# Altium schematic symbol library HW.SchLib: 328 symbols (part 4 of 10)
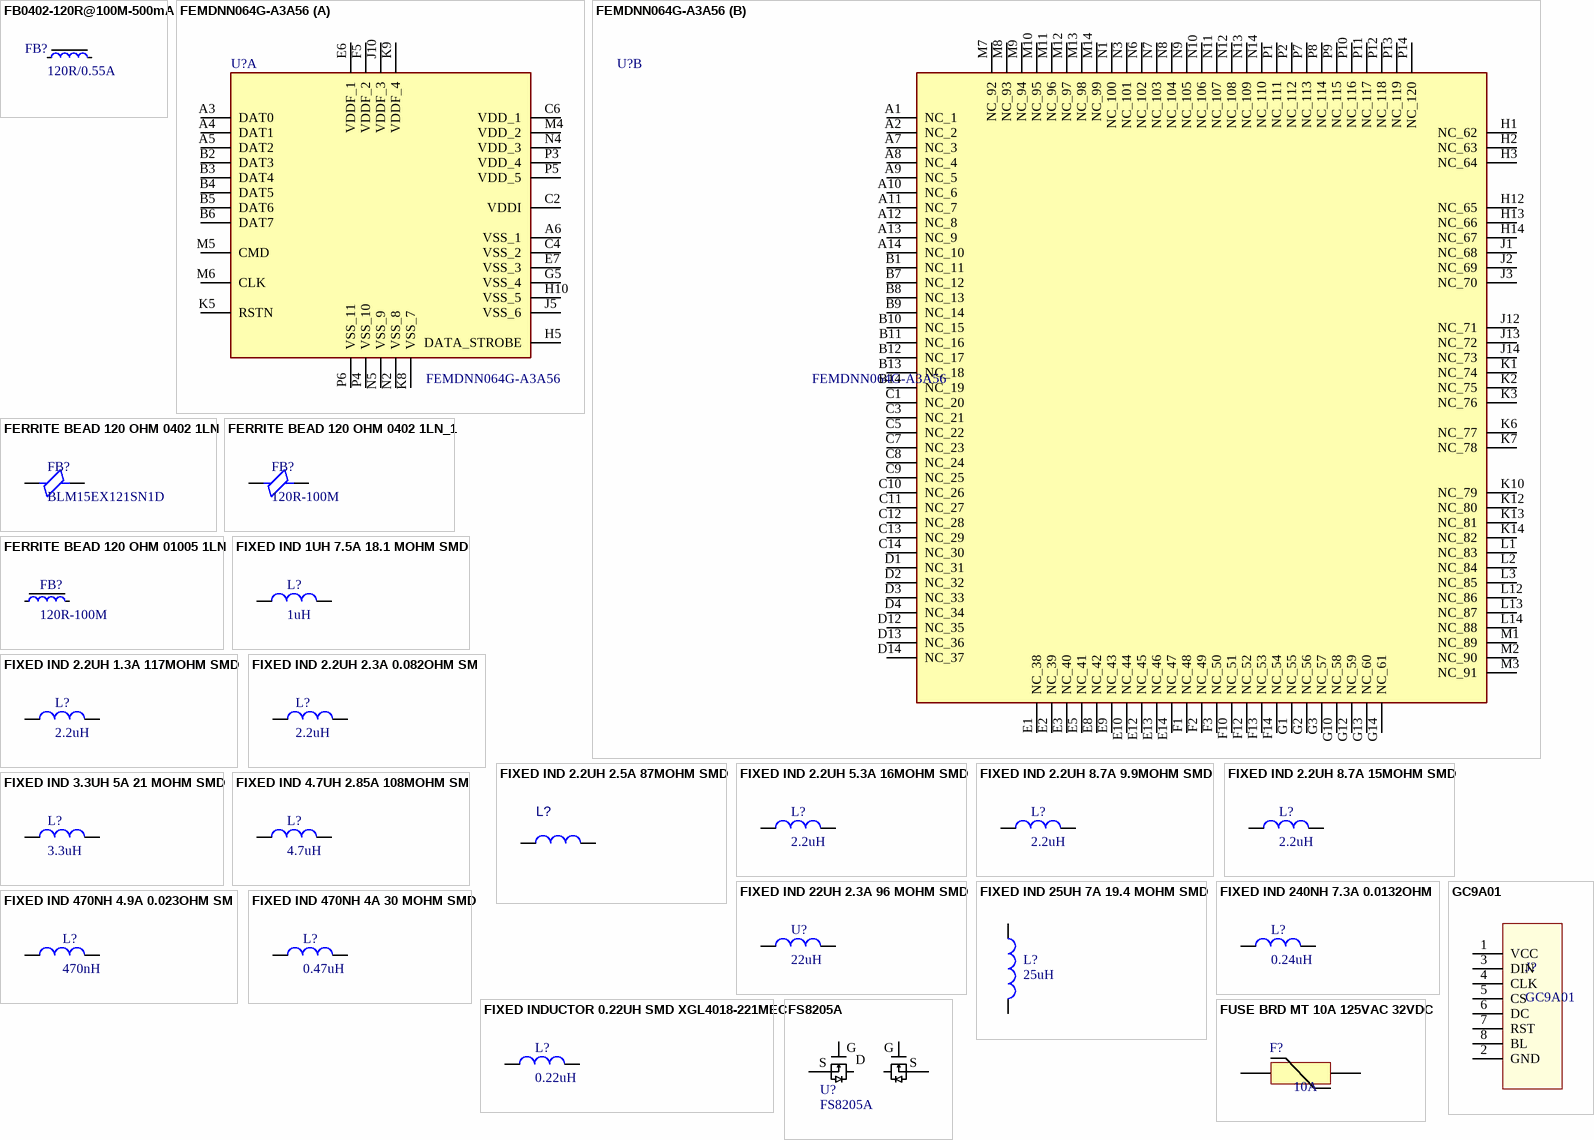
[diagram p26: symbols FB0402-120R@100M-500mA to GC9A01]

## FIXED IND 22UH 2.3A 96 MOHM SMD
designator U?, comment 22uH
Inductor Power Semi-Shielded Wirewound 22uH 20% 1MHz 15Q-Factor Ferrite 2.3A 0.096Ohm DCR 2424 Automotive T/R; Manufacturer: Bourns; Manufacturer Part Number: SRN6045TA-220M; Saturation Current: 3.3A; DC Resistance (DCR): 96mR; Self Resonant Frequency: 17MHz; Series Resistance: 115.2mR; Q Factor: 15NUMBER; Supplier 1: Avnet; RoHS: Yes; Category: Fixed Inductors; Stock 1: 120; Pricing 1: 1=0.354 (USD); Mount: Surface Mount; Case/Package: Nonstandard; Core Material: Ferrite; Min Operating Temperature: -55°C; Max Operating Temperature: 125°C; Inductance: 22uH; RMS Current (Irms): 2.3A; Packaging: Tape and Reel; Inductance Tolerance: 20%; Series: SRN6045TA; Tolerance: 20%; Shielding: Shielded; Test Frequency: 1MHz; Height: 4.5mm; Ratings: AEC-Q200; Reach SVHC Compliant: No; RoHS Compliant: Yes; ComponentLink1URL: https://www.bourns.com/docs/Product-Datasheets/SRN6045TA.pdf?src-supplier=Digikey; ComponentLink1Description: https://www.bourns.com/docs/Product-Datasheets/SRN6045TA.pdf?src-supplier=Digikey; Supplier Part Number 1: 94Y3548
footprint SRN6045TA
pins: 1, 2

## FIXED IND 25UH 7A 19.4 MOHM SMD
designator L?, comment 25uH
FIXED IND 25UH 7A 19.4 MOHM SMD; Manufacturer PN: Pulse Electronics; Manufacturer: PG0936.253NL; JLCPCB PN: C3221002
footprint 78439370220
pins: 1, 2

## FIXED IND 240NH 7.3A 0.0132OHM
designator L?, comment 0.24uH
Inductor Power Shielded Wirewound 0.24uH 20% 1MHz 15Q-Factor Metal Alloy Powder 7.3A 0.0132Ohm DCR 1008 T/R; Manufacturer: Bourns; Manufacturer Part Number: SRP2512TMA-R24M; Supplier 1: Arrow Electronics; RoHS: No; Stock 1: 1760; Pricing 1: 1=0.1431, 10=0.097, 25=0.096, 50=0.0948, 100=0.0923, 250=0.0897, 500=0.0871, 1000=0.0846 (USD); Supplier Part Number 1: SRP2512TMA-R24M
footprint INDC2520X120N
pins: 1, 2

## FIXED IND 470NH 4.9A 0.023OHM SM
designator L?, comment 470nH
Inductor Power Chip Shielded Wirewound 0.47uH 20% 1MHz Metal 4.9A 0.023Ohm DCR 1008 T/R; Manufacturer: Murata; Manufacturer Part Number: DFE252012F-R47M=P2; Supplier 1: Mouser; RoHS: Yes; Category: Fixed Inductors; Stock 1: 95724; Pricing 1: 1=0.32, 10=0.216, 50=0.216, 100=0.169, 1000=0.134, 10000=0.116 (USD); ComponentLink1URL: http://www.murata.com/~/media/webrenewal/products/inductor/chip/tokoproducts/wirewoundmetalalloychiptype/m_dfe252012f.ashx?src-supplier=Digikey; ComponentLink1Description: http://www.murata.com/~/media/webrenewal/products/inductor/chip/tokoproducts/wirewoundmetalalloychiptype/m_dfe252012f.ashx?src-supplier=Digikey; ComponentLink2URL: https://www.murata.com/~/media/webrenewal/products/inductor/chip/tokoproducts/wirewoundmetalalloychiptype/m_dfe252012f.ashx?src-supplier=Digikey; ComponentLink2Description: https://www.murata.com/~/media/webrenewal/products/inductor/chip/tokoproducts/wirewoundmetalalloychiptype/m_dfe252012f.ashx?src-supplier=Digikey; ComponentLink3URL: https://datasheet.octopart.com/DFE252012F-R47M%3DP2-Murata-datasheet-141944277.pdf?src-supplier=Arrow.cn; ComponentLink3Description: https://datasheet.octopart.com/DFE252012F-R47M%3DP2-Murata-datasheet-141944277.pdf?src-supplier=Arrow.cn; Supplier Part Number 1: 81-DFE252012F-R47MP2
footprint INDC2520X120N
pins: 1, 2

## FIXED IND 470NH 4A 30 MOHM SMD
designator L?, comment 0.47uH
Fixed Ind 470NH 4A 30 Mohm SMD; Manufacturer: Sunlord; Manufacturer Part Number: WPN252010UR47MT; Supplier 1: Digikey; RoHS: No; Category: Fixed Inductors; Stock 1: 431; Pricing 1: 1=0.39, 10=0.333, 25=0.3056, 50=0.2778, 100=0.2472, 250=0.23332, 500=0.19998, 1000=0.17776 (USD); Supplier Part Number 1: 3442-WPN252010UR47MTCT-ND
footprint INDC2520X120N
pins: 1, 2

## FIXED INDUCTOR 0.22UH SMD XGL4018-221MEC
designator L?, comment 0.22uH
220 nH Shielded Molded Inductor 15.6 A 3.2mOhm Max 1616 (4040 Metric)
footprint IND_XGL4018-221MEC
pins: 1, 2

## FS8205A
designator U?
Mosfet Array 2 N-Channel (Dual) Common Drain 20V 6A 1.25W Surface Mount TSSOP-8
footprint TSSOP-8
pins: 1 D, 2 S1, 4 G1, 5 G2, 6 S2, 8 D
text: G; S

## FUSE BRD MT 10A 125VAC 32VDC
designator F?, comment 10A
Fuse Chip Fast Acting 10A 125V SMD Solder Pad 1206 3.2 X 1.58 X 0.65mm Ceramic T/R Automotive; Part Number: F0004; ManfactPart: C1H10; Manufacturer: Bel; Manufacturer Part Number: 0685H9100-01; ID: 4; Fuse Type: Board Mount (Cartridge Style Excluded); Voltage Rating (DC): 32V; DC Cold Resistance: 3.9mR; Approvals: cURus; Supplier 1: Digikey; RoHS: Yes; Category: Fuses; Stock 1: 148467; Pricing 1: 1=0.32, 5=0.312, 10=0.298, 50=0.2662, 100=0.2479, 250=0.22036, 500=0.18362, 1000=0.17444 (USD); Mount: Surface Mount; Case/Package: 1206; Case Code (Imperial): 1206; Case Code (Metric): 3216; Min Operating Temperature: -55°C; Max Operating Temperature: 125°C; Packaging: Cut Tape; Current Rating: 10A; Voltage Rating (AC): 125V; Series: C1H; RoHS Compliant: Yes; ComponentLink1URL: http://www.farnell.com/datasheets/2571626.pdf?src-supplier=Farnell; ComponentLink1Description: http://www.farnell.com/datasheets/2571626.pdf?src-supplier=Farnell; ComponentLink2URL: http://www.farnell.com/datasheets/2571626.pdf?src-supplier=Element14; ComponentLink2Description: http://www.farnell.com/datasheets/2571626.pdf?src-supplier=Element14; ComponentLink3URL: http://www.farnell.com/datasheets/2571626.pdf?src-supplier=Newark; ComponentLink3Description: http://www.farnell.com/datasheets/2571626.pdf?src-supplier=Newark; ComponentLink4URL: https://belfuse.com/resources/datasheets/circuitprotection/ds-cp-c1h-series.pdf?src-supplier=Digikey; ComponentLink4Description: https://belfuse.com/resources/datasheets/circuitprotection/ds-cp-c1h-series.pdf?src-supplier=Digikey; ComponentLink5URL: https://belfuse.com/resources/StewartConnector/C1H.pdf?src-supplier=Digikey; ComponentLink5Description: https://belfuse.com/resources/StewartConnector/C1H.pdf?src-supplier=Digikey; Supplier Part Number 1: 507-1942-1-ND; RefVal: 10A
footprint FUSE_1206(3216)HW
pins: 1, 2

## GC9A01
designator J?
1.28" Round LCD Display Module
footprint CONN_BM08B-PASS-1-TFTLFSN_JST
pins: 1 VCC, 2 GND, 3 DIN, 4 CLK, 5 CS, 6 DC, 7 RST, 8 BL

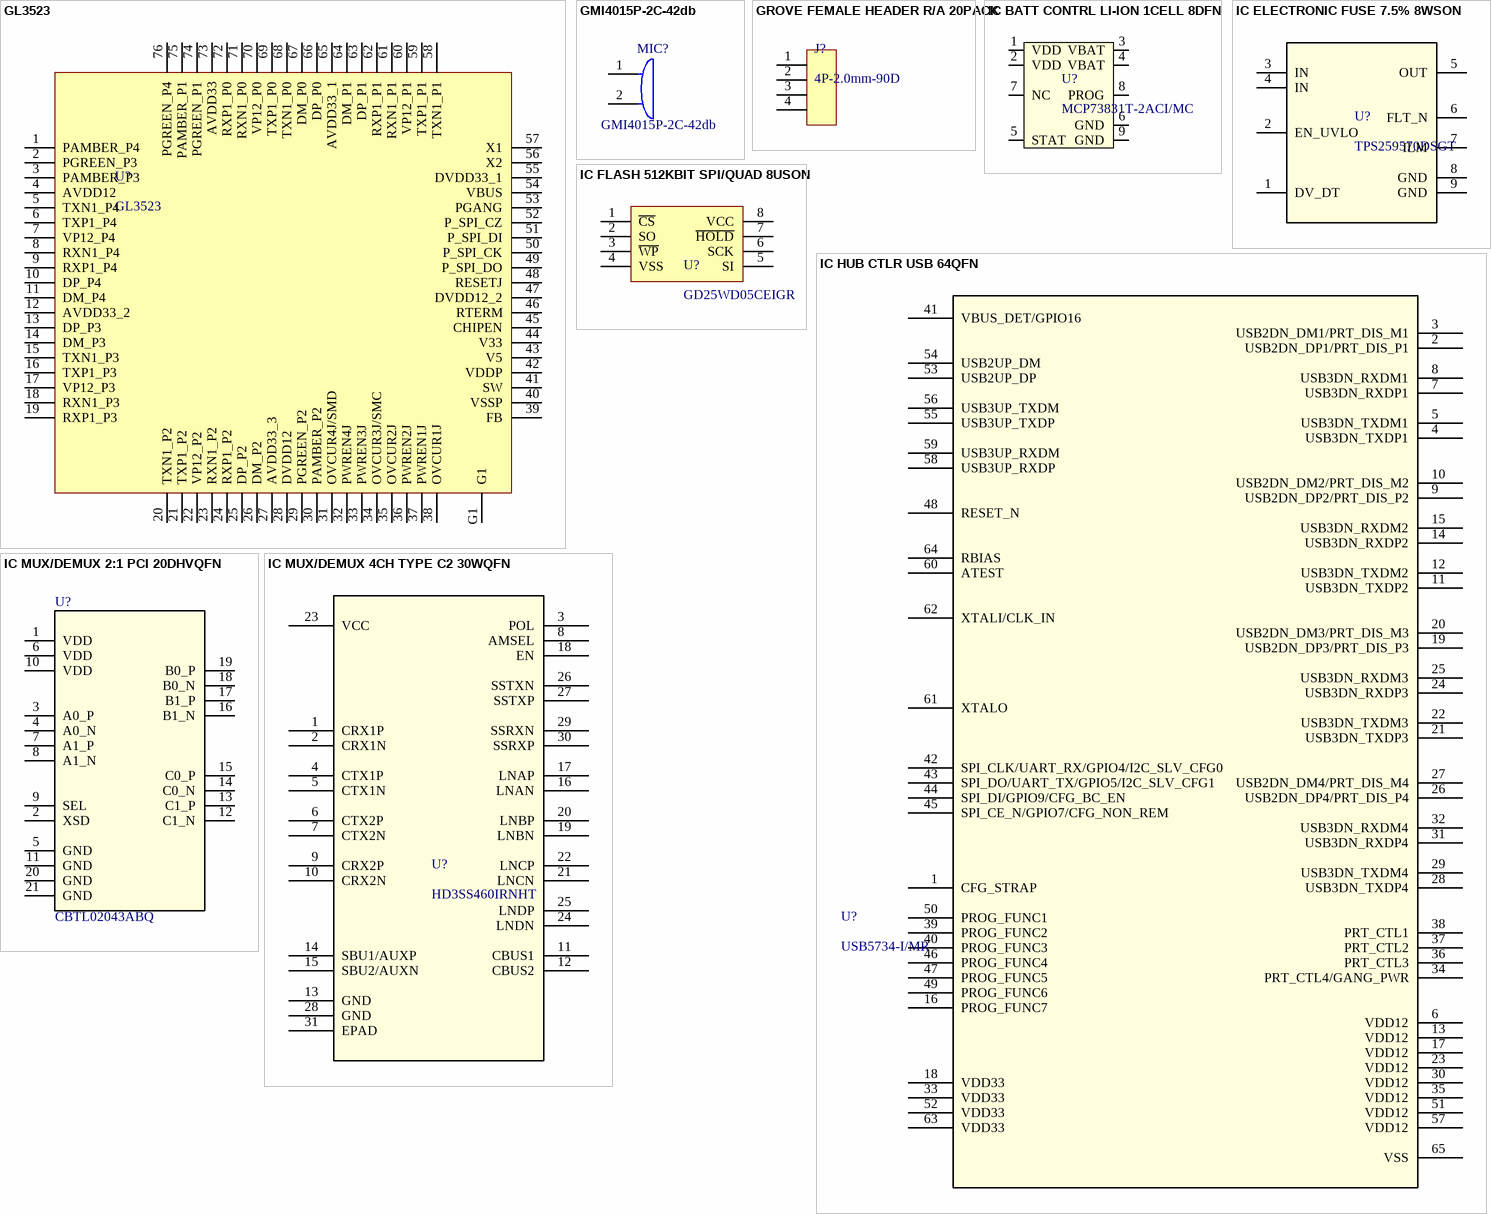
[diagram p4: symbols GL3523 to IC MUX/DEMUX 4CH TYPE C2 30WQFN]

## GL3523
designator U?
pins: 1 PAMBER_P4, 2 PGREEN_P3, 3 PAMBER_P3, 4 AVDD12, 5 TXN1_P4, 6 TXP1_P4, 7 VP12_P4, 8 RXN1_P4, 9 RXP1_P4, 10 DP_P4, 11 DM_P4, 12 AVDD33_2, 13 DP_P3, 14 DM_P3, 15 TXN1_P3, 16 TXP1_P3, 17 VP12_P3, 18 RXN1_P3, 19 RXP1_P3, 20 TXN1_P2, 21 TXP1_P2, 22 VP12_P2, 23 RXN1_P2, 24 RXP1_P2, 25 DP_P2, 26 DM_P2, 27 AVDD33_3, 28 DVDD12, 29 PGREEN_P2, 30 PAMBER_P2, 31 OVCUR4J/SMD, 32 PWREN4J, 33 PWREN3J, 34 OVCUR3J/SMC, 35 OVCUR2J, 36 PWREN2J, 37 PWREN1J, 38 OVCUR1J, 39 FB, 40 VSSP, 41 SW, 42 VDDP, 43 V5, 44 V33, 45 CHIPEN, 46 RTERM, 47 DVDD12_2, 48 RESETJ, 49 P_SPI_DO, 50 P_SPI_CK, 51 P_SPI_DI, 52 P_SPI_CZ, 53 PGANG, 54 VBUS, 55 DVDD33_1, 56 X2, 57 X1, 58 TXN1_P1, 59 TXP1_P1, 60 VP12_P1, 61 RXN1_P1, 62 RXP1_P1, 63 DP_P1, 64 DM_P1, 65 AVDD33_1, 66 DP_P0, 67 DM_P0, 68 TXN1_P0, 69 TXP1_P0, 70 VP12_P0, 71 RXN1_P0, 72 RXP1_P0, 73 AVDD33, 74 PGREEN_P1, 75 PAMBER_P1, 76 PGREEN_P4, G1

## GMI4015P-2C-42db
designator MIC?
SPZL000087; 名称: 驻极体电容麦; 厂商: INGHAi(赢海); 贴片和直插: THT; 封装: MIC-φ4.0*1.2mm; 描述: φ4.0*1.5mm 1.5V-10V; 工作温度: -25~70℃; SuppliersPartNumber: C233292; 商品编号: SPZL000087; 型号: GMI4015P-2C-42db
footprint MIC-TH_BD4.0-P1.40-D0.4-L-FD
pins: 1 A, 2 B
2 alternate drawings of the same symbol

## GROVE FEMALE HEADER R/A 20PACK
designator J?, comment 4P-2.0mm-90D
Grove Female Headers, 4-Pin, Pitch 2mm, Angled, Pack of 20 Pieces; Manufacturer: Seeed Studio; Manufacturer Part Number: 114020164; Supplier 1: Digikey; RoHS: No; Stock 1: 227; Pricing 1: 1=2.8 (USD); ComponentLink1URL: https://files.seeedstudio.com/products/114020164/res/Grove%20Female%20Header%20-%20SMD-4P-2.0mm-90D%20Datasheet.pdf?src-supplier=Digikey; ComponentLink1Description: https://files.seeedstudio.com/products/114020164/res/Grove%20Female%20Header%20-%20SMD-4P-2.0mm-90D%20Datasheet.pdf?src-supplier=Digikey; Supplier Part Number 1: 1597-114020164-ND
footprint SEEEDSTUDIO_114020164
pins: 1, 2, 3, 4

## IC BATT CONTRL LI-ION 1CELL 8DFN
designator U?, comment MCP73831T-2ACI/MC
Linear Battery Charger Controller Li-Ion/Li-Pol 505mA 4.2V 8-Pin DFN EP T/R; Manufacturer: Microchip; Nominal Input Voltage: 6V; Number of Outputs: 1NUMBER; Supplier 1: Digikey; Manufacturer Part Number: MCP73831T-2ACI/MC; RoHS: Yes; Category: Battery Management; Stock 1: 12388; Pricing 1: 1=0.79, 25=0.65, 3300=0.65 (USD); Height: 1mm; Lead Free: 5697LeadFree; ComponentLink1URL: https://datasheet.ciiva.com/1933/21984e-1933405.pdf?src-supplier=Digikey; ComponentLink1Description: https://datasheet.ciiva.com/1933/21984e-1933405.pdf?src-supplier=Digikey; Supplier Part Number 1: MCP73831T-2ACI/MCCT-ND
footprint MCP73831T-2ACI/MC
pins: 1 VDD, 2 VDD, 3 VBAT, 4 VBAT, 5 STAT, 6 GND, 7 NC, 8 PROG, 9 GND

## IC ELECTRONIC FUSE 7.5% 8WSON
designator U?, comment TPS259570DSGT
TPS259570 12V eFuse with Fast Overvoltage Protection 2.7V to 18V 4A 34m Ohm 8-Pin WSON T/R; Mfr_Name: Texas Instruments; Number of Channels: 1; Accuracy: 7.5%; TYPE: TYPE; RefDes: RefDes; Supplier 1: Mouser; Manufacturer: Texas Instruments; Manufacturer Part Number: TPS259570DSGT; RoHS: Yes; Category: Power Management ICs; Stock 1: 1228; Pricing 1: 1=1.11, 10=0.945, 50=0.945, 100=0.662, 1000=0.505, 10000=0.431 (USD); Mount: Surface Mount; Min Operating Temperature: -40°C; Max Operating Temperature: 125°C; Packaging: Cut Tape; Output Current: 4A; Series: -; RoHS Compliant: Yes; ComponentLink1URL: http://www.ti.com/lit/ds/symlink/tps2595.pdf?src-supplier=Digikey; ComponentLink1Description: http://www.ti.com/lit/ds/symlink/tps2595.pdf?src-supplier=Digikey; ComponentLink2URL: http://www.ti.com/general/docs/suppproductinfo.tsp?distId=10&amp;gotoUrl=http%3A%2F%2Fwww.ti.com%2Flit%2Fgpn%2Ftps2595&src-supplier=Digikey; ComponentLink2Description: http://www.ti.com/general/docs/suppproductinfo.tsp?distId=10&amp;gotoUrl=http%3A%2F%2Fwww.ti.com%2Flit%2Fgpn%2Ftps2595&src-supplier=Digikey; Supplier Part Number 1: 595-TPS259570DSGT
footprint DSG0008A
pins: 1 DV_DT, 2 EN_UVLO, 3 IN, 4 IN, 5 OUT, 6 FLT_N, 7 ILM, 8 GND, 9 GND

## IC FLASH 512KBIT SPI/QUAD 8USON
designator U?, comment GD25WD05CEIGR
512Kb (64K x 8) SPI NOR Flash FLASH 100MHz Non-Volatile USON-8_3x2mm NOR FLASH ROHS; Manufacturer: GigaDevice; Supplier 1: Mouser; Manufacturer Part Number: GD25WD05CEIGR; RoHS: No; Category: Memory; Stock 1: 1494; Pricing 1: 1=0.41, 10=0.402, 50=0.402, 100=0.329, 1000=0.324, 10000=0.274 (USD); Supplier Part Number 1: 363-GD25WD05CEIGR
pins: 1 ~{CS}, 2 SO, 3 ~{WP}, 4 VSS, 5 SI, 6 SCK, 7 ~{HOLD}, 8 VCC

## IC HUB CTLR USB 64QFN
designator U?, comment USB5734-I/MR
USB Hub Controller USB 3.0 I2C, SPI, UART Interface 64-VQFN (9x9); Mfr_Name: Microchip; RefDes: RefDes; Type: Type
footprint VQFN64_MR_MCH
pins: 1 CFG_STRAP, 2 USB2DN_DP1/PRT_DIS_P1, 3 USB2DN_DM1/PRT_DIS_M1, 4 USB3DN_TXDP1, 5 USB3DN_TXDM1, 6 VDD12, 7 USB3DN_RXDP1, 8 USB3DN_RXDM1, 9 USB2DN_DP2/PRT_DIS_P2, 10 USB2DN_DM2/PRT_DIS_M2, 11 USB3DN_TXDP2, 12 USB3DN_TXDM2, 13 VDD12, 14 USB3DN_RXDP2, 15 USB3DN_RXDM2, 16 PROG_FUNC7, 17 VDD12, 18 VDD33, 19 USB2DN_DP3/PRT_DIS_P3, 20 USB2DN_DM3/PRT_DIS_M3, 21 USB3DN_TXDP3, 22 USB3DN_TXDM3, 23 VDD12, 24 USB3DN_RXDP3, 25 USB3DN_RXDM3, 26 USB2DN_DP4/PRT_DIS_P4, 27 USB2DN_DM4/PRT_DIS_M4, 28 USB3DN_TXDP4, 29 USB3DN_TXDM4, 30 VDD12, 31 USB3DN_RXDP4, 32 USB3DN_RXDM4, 33 VDD33, 34 PRT_CTL4/GANG_PWR, 35 VDD12, 36 PRT_CTL3, 37 PRT_CTL2, 38 PRT_CTL1, 39 PROG_FUNC2, 40 PROG_FUNC3, 41 VBUS_DET/GPIO16, 42 SPI_CLK/UART_RX/GPIO4/I2C_SLV_CFG0, 43 SPI_DO/UART_TX/GPIO5/I2C_SLV_CFG1, 44 SPI_DI/GPIO9/CFG_BC_EN, 45 SPI_CE_N/GPIO7/CFG_NON_REM, 46 PROG_FUNC4, 47 PROG_FUNC5, 48 RESET_N, 49 PROG_FUNC6, 50 PROG_FUNC1, 51 VDD12, 52 VDD33, 53 USB2UP_DP, 54 USB2UP_DM, 55 USB3UP_TXDP, 56 USB3UP_TXDM, 57 VDD12, 58 USB3UP_RXDP, 59 USB3UP_RXDM, 60 ATEST, 61 XTALO, 62 XTALI/CLK_IN, 63 VDD33, 64 RBIAS, 65 VSS

## IC MUX/DEMUX 2:1 PCI 20DHVQFN
designator U?, comment CBTL02043ABQ
3.3 V Dual Differential Channel 2: 1 Multiplexer Demultiplexer Switch DHVQFN20; Manufacturer: NXP Semiconductors; Manufacturer Part Number: CBTL02043ABQ,115; Logic Function: Multiplexer,Demultiplexer; Max Supply Voltage: 3.6V; Min Supply Voltage: 3V; On-State Resistance: 6R; Operating Supply Current: 1.35mA; Number of Channels: 4; Propagation Delay: 60ps; Bandwidth: 7GHz; Supply Type: Single; Supplier 1: Arrow Electronics; RoHS: Yes; Category: Interface ICs; Stock 1: 1260; Pricing 1: 1=1.8647, 10=1.5783, 25=1.5626, 100=1.3659, 250=1.2761, 500=1.1266, 1000=0.9598 (USD); Mount: Surface Mount; Number of Pins: 20; Contact Plating: Gold; Min Operating Temperature: -40°C; Max Operating Temperature: 85°C; Package Quantity: 1; Packaging: Tape and Reel; Series: -; Resistance: 6R; Lead Free: Lead Free; RoHS Compliant: Yes; ComponentLink1URL: https://datasheet.ciiva.com/4921/cbtl02043a-cbtl02043b-87520-4921245.pdf?src-supplier=Mouser; ComponentLink1Description: https://datasheet.ciiva.com/4921/cbtl02043a-cbtl02043b-87520-4921245.pdf?src-supplier=Mouser; ComponentLink2URL: https://datasheet.ciiva.com/6637/cbtl02043a-cbtl02043b-6637066.pdf?src-supplier=Digikey; ComponentLink2Description: https://datasheet.ciiva.com/6637/cbtl02043a-cbtl02043b-6637066.pdf?src-supplier=Digikey; Supplier Part Number 1: CBTL02043ABQ,115
footprint DHVQFN20_SOT764-1_NXP
pins: 1 VDD, 2 XSD, 3 A0_P, 4 A0_N, 5 GND, 6 VDD, 7 A1_P, 8 A1_N, 9 SEL, 10 VDD, 11 GND, 12 C1_N, 13 C1_P, 14 C0_N, 15 C0_P, 16 B1_N, 17 B1_P, 18 B0_N, 19 B0_P, 20 GND, 21 GND

## IC MUX/DEMUX 4CH TYPE C2 30WQFN
designator U?, comment HD3SS460IRNHT
USB Switch IC 1 Channel 30-WQFN (4.5x2.5); Mfr_Name: Texas Instruments; RefDes: RefDes; Type: Type
footprint RNH30_TEX
pins: 1 CRX1P, 2 CRX1N, 3 POL, 4 CTX1P, 5 CTX1N, 6 CTX2P, 7 CTX2N, 8 AMSEL, 9 CRX2P, 10 CRX2N, 11 CBUS1, 12 CBUS2, 13 GND, 14 SBU1/AUXP, 15 SBU2/AUXN, 16 LNAN, 17 LNAP, 18 EN, 19 LNBN, 20 LNBP, 21 LNCN, 22 LNCP, 23 VCC, 24 LNDN, 25 LNDP, 26 SSTXN, 27 SSTXP, 28 GND, 29 SSRXN, 30 SSRXP, 31 EPAD

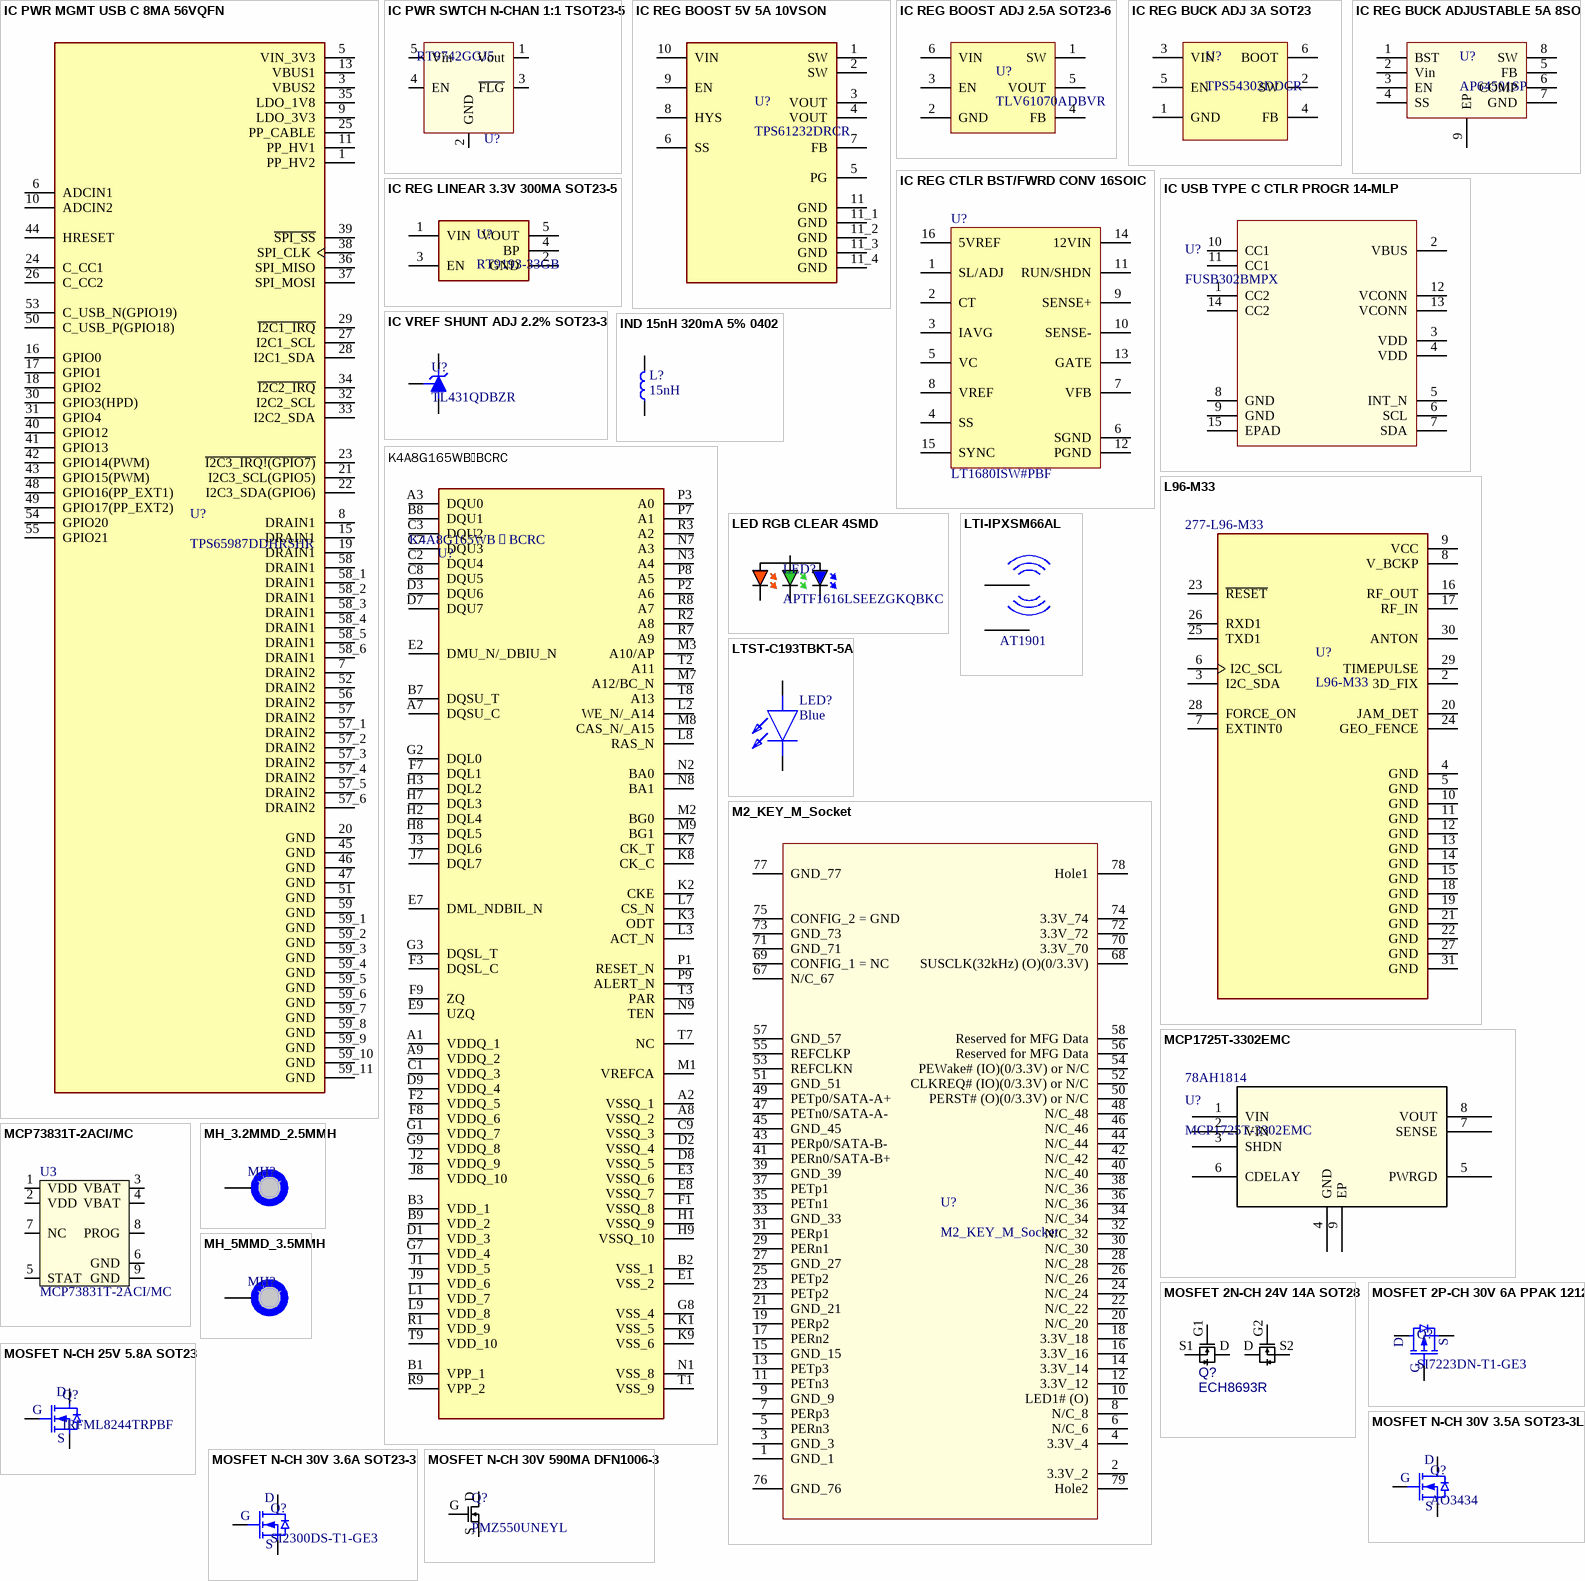
[diagram p5: symbols IC PWR MGMT USB C 8MA 56VQFN to MOSFET N-CH 30V 590MA DFN1006-3]

## IC PWR MGMT USB C 8MA 56VQFN
designator U?, comment TPS65987DDHRSHR
USB Type-C™ and USB PD controller with integrated power switches 56-VQFN -10 to 75; Manufacturer: Texas Instruments; Operating Supply Current: 8mA; Supplier 1: Mouser; Manufacturer Part Number: TPS65987DDHRSHR; RoHS: Yes; Category: Power Management ICs; Stock 1: 4765; Pricing 1: 1=4.67, 10=3.98, 50=3.98, 100=3.44, 1000=2.48, 10000=2.35 (USD); Mount: Surface Mount; Case/Package: VQFN; Min Operating Temperature: -10°C; Max Operating Temperature: 75°C; Packaging: Tape and Reel; Series: -; RoHS Compliant: Yes; ComponentLink1URL: http://www.ti.com/lit/ds/symlink/tps65987d.pdf?src-supplier=Digikey; ComponentLink1Description: http://www.ti.com/lit/ds/symlink/tps65987d.pdf?src-supplier=Digikey; ComponentLink2URL: http://www.ti.com/general/docs/suppproductinfo.tsp?distId=10&amp;gotoUrl=http%3A%2F%2Fwww.ti.com%2Flit%2Fgpn%2Ftps65987d&src-supplier=Digikey; ComponentLink2Description: http://www.ti.com/general/docs/suppproductinfo.tsp?distId=10&amp;gotoUrl=http%3A%2F%2Fwww.ti.com%2Flit%2Fgpn%2Ftps65987d&src-supplier=Digikey; Supplier Part Number 1: 595-TPS65987DDHRSHR
footprint IC_TPS65987DDHRSHR
pins: 1 PP_HV2 (power), 3 VBUS2 (power), 5 VIN_3V3 (power), 6 ADCIN1, 7 DRAIN2, 8 DRAIN1, 9 LDO_3V3 (power), 10 ADCIN2, 11 PP_HV1 (power), 13 VBUS1 (power), 15 DRAIN1, 16 GPIO0, 17 GPIO1, 18 GPIO2, 19 DRAIN1, 20 GND (power), 21 I2C3_SCL(GPIO5), 22 I2C3_SDA(GPIO6), 23 ~{I2C3_IRQ!(GPIO7)}, 24 C_CC1, 25 PP_CABLE (power), 26 C_CC2, 27 I2C1_SCL, 28 I2C1_SDA, 29 ~{I2C1_IRQ}, 30 GPIO3(HPD), 31 GPIO4, 32 I2C2_SCL, 33 I2C2_SDA, 34 ~{I2C2_IRQ}, 35 LDO_1V8 (power), 36 SPI_MISO, 37 SPI_MOSI, 38 SPI_CLK, 39 ~{SPI_SS}, 40 GPIO12, 41 GPIO13, 42 GPIO14(PWM), 43 GPIO15(PWM), 44 HRESET, 45 GND (power), 46 GND (power), 47 GND (power), 48 GPIO16(PP_EXT1), 49 GPIO17(PP_EXT2), 50 C_USB_P(GPIO18), 51 GND (power), 52 DRAIN2, 53 C_USB_N(GPIO19), 54 GPIO20, 55 GPIO21, 56 DRAIN2, 57 DRAIN2, 57_1 DRAIN2, 57_2 DRAIN2, 57_3 DRAIN2, 57_4 DRAIN2, 57_5 DRAIN2, 57_6 DRAIN2, 58 DRAIN1, 58_1 DRAIN1, 58_2 DRAIN1, 58_3 DRAIN1, 58_4 DRAIN1, 58_5 DRAIN1, 58_6 DRAIN1, 59 GND (power), 59_1 GND (power), 59_2 GND (power), 59_3 GND (power), 59_4 GND (power), 59_5 GND (power), 59_6 GND (power), 59_7 GND (power), 59_8 GND (power), 59_9 GND (power), 59_10 GND (power), 59_11 GND (power)

## IC PWR SWTCH N-CHAN 1:1 TSOT23-5
designator U?, comment RT9742GGJ5
IC Pwr Swtch N-chan 1: 1 TSOT23-5; Part Number: IC0029; Manufacturer: Richtek; ID: 29; Number of Outputs: 1; Interface: On/Off; Max Output Current: 1A; Fault Protection: Over Temperature,Reverse Current; Output Configuration: High Side; On-State Resistance: 70mR; RefVal: RT9742; ManfactPart: RT9742GGJ5; Supplier 1: Digikey; Manufacturer Part Number: RT9742GGJ5; RoHS: Yes; Category: Power Management ICs; Stock 1: 9826; Pricing 1: 1=1.43, 10=1.278, 25=1.2128, 100=0.9961, 250=0.93112, 500=0.82284, 1000=0.64962 (USD); Case/Package: SOT-23-5; Number of Pins: 23; Min Operating Temperature: -40°C; Max Operating Temperature: 85°C; Packaging: Cut Tape; Series: -; RoHS Compliant: Yes; Reach SVHC Compliant: No; ComponentLink1URL: http://www.farnell.com/datasheets/2045592.pdf?src-supplier=Farnell; ComponentLink1Description: http://www.farnell.com/datasheets/2045592.pdf?src-supplier=Farnell; ComponentLink2URL: http://www.richtek.com/assets/product_file/RT9742/DS9742-03.pdf?src-supplier=Digikey; ComponentLink2Description: http://www.richtek.com/assets/product_file/RT9742/DS9742-03.pdf?src-supplier=Digikey; ComponentLink3URL: http://www.farnell.com/datasheets/2045592.pdf?src-supplier=Element14; ComponentLink3Description: http://www.farnell.com/datasheets/2045592.pdf?src-supplier=Element14; Supplier Part Number 1: 1028-1436-1-ND
footprint SOT-23-5
pins: 1 Vout (power), 2 GND (power), 3 ~{FLG} (power), 4 EN (power), 5 Vin (power)

## IC REG BOOST 5V 5A 10VSON
designator U?, comment TPS61232DRCR
5-A, 5-V fixed output voltage high efficiency synchronous boost converter; MF: Texas Instruments; SnapEDA_Link: https://www.snapeda.com/parts/TPS61232DRCR/Texas+Instruments/view-part/?ref=snap; Package: Package; Value: *; MP: TPS61232DRCR; Check_prices: https://www.snapeda.com/parts/TPS61232DRCR/Texas+Instruments/view-part/?ref=eda
footprint VREG_TPS61232DRCR
pins: 1 SW, 2 SW, 3 VOUT, 4 VOUT, 5 PG, 6 SS, 7 FB, 8 HYS, 9 EN, 10 VIN, 11 GND, 11_1 GND, 11_2 GND, 11_3 GND, 11_4 GND

## IC REG BOOST ADJ 2.5A SOT23-6
designator U?, comment TLV61070ADBVR
5-V 2-A boost converter with 0.5-V minimum input voltage 6-SOT-23 -40 to 125; Manufacturer: Texas Instruments; Supplier 1: Digikey; Manufacturer Part Number: TLV61070ADBVR; RoHS: No; Category: Voltage Regulators - Switching; Stock 1: 879; Pricing 1: 1=0.49, 10=0.417, 25=0.3888, 100=0.3111, 250=0.28888, 500=0.24442, 1000=0.18887 (USD); Supplier Part Number 1: 296-TLV61070ADBVRCT-ND
footprint SOT-23-6
pins: 1 SW, 2 GND, 3 EN, 4 FB, 5 VOUT, 6 VIN

## IC REG BUCK ADJ 3A SOT23
designator U?, comment TPS54302DDCR
Conv DC-DC 4.5V to 28V Synchronous Step Down Single-Out 3A 6-Pin TSOT-23 T/R; Manufacturer: Texas Instruments; Supplier 1: Mouser; Manufacturer Part Number: TPS54302DDCR; RoHS: Yes; Category: Voltage Regulators - Switching; Stock 1: 1651; Pricing 1: 1=1.2, 10=1.02, 50=1.02, 100=0.782, 1000=0.546, 10000=0.465 (USD); ComponentLink1URL: http://www.ti.com/lit/ds/symlink/tps54302.pdf?src-supplier=Digikey; ComponentLink1Description: http://www.ti.com/lit/ds/symlink/tps54302.pdf?src-supplier=Digikey; Supplier Part Number 1: 595-TPS54302DDCR
footprint SOT-23-6
pins: 1 GND, 2 SW, 3 VIN, 4 FB, 5 EN, 6 BOOT

## IC REG BUCK ADJUSTABLE 5A 8SO
designator U?, comment AP64501SP
3.8V to 40V Input 5A Low IQ Synchronous Buck Converter with Programmable Soft-Start Time 8-Pin SOIC EP T/R; Manufacturer: Diodes; Manufacturer Part Number: AP64501SP-13; Supplier 1: Arrow Electronics; RoHS: Yes; Category: Voltage Regulators - Switching; Stock 1: 8000; Pricing 1: 4000=1.0049, 8000=0.9719 (USD); Supplier Part Number 1: AP64501SP-13
footprint SOP 8 - THERMAL
pins: 1 BST, 2 Vin, 3 EN, 4 SS, 5 FB, 6 COMP, 7 GND, 8 SW, 9 EP

## IC REG CTLR BST/FWRD CONV 16SOIC
designator U?, comment LT1680ISW#PBF
IC REG CTLR BST/FWRD CONV 16SOIC; Manufacturer: Analog Devices Inc.; Manufacturer PN: LT1680ISW#PBF; JLCPCB PN: C664608
footprint SOIC16_LT1680ISW_PBF (Footprint not found)
pins: 1 SL/ADJ, 2 CT, 3 IAVG, 4 SS, 5 VC, 6 SGND, 7 VFB, 8 VREF, 9 SENSE+, 10 SENSE-, 11 RUN/SHDN, 12 PGND, 13 GATE, 14 12VIN, 15 SYNC, 16 5VREF

## IC REG LINEAR 3.3V 300MA SOT23-5
designator U?, comment RT9193-33GB
LDO Regulator Pos 3.3V 0.3A 5-Pin SOT-23; Manufacturer: Richtek; Supplier 1: Digikey; Manufacturer Part Number: RT9193-33GB; RoHS: Yes; Category: Voltage Regulators - Linear; Stock 1: 34414; Pricing 1: 1=0.53, 10=0.454, 25=0.424, 100=0.3394, 250=0.31512, 500=0.26664, 1000=0.20604 (USD); ComponentLink1URL: https://datasheet.ciiva.com/28652/1782157-28652989.pdf?src-supplier=Element14; ComponentLink1Description: https://datasheet.ciiva.com/28652/1782157-28652989.pdf?src-supplier=Element14; ComponentLink2URL: https://datasheet.ciiva.com/2046/3d3futf-83fb3frfm5mtkzlte2lnbkzg3d3d3f3d-2046896.pdf?src-supplier=Digikey; ComponentLink2Description: https://datasheet.ciiva.com/2046/3d3futf-83fb3frfm5mtkzlte2lnbkzg3d3d3f3d-2046896.pdf?src-supplier=Digikey; Supplier Part Number 1: 1028-1014-1-ND
footprint SOT-23-5
pins: 1 VIN, 2 GND, 3 EN, 4 BP, 5 VOUT

## IC USB TYPE C CTLR PROGR 14-MLP
designator U?, comment FUSB302BMPX
USB Controller USB 3.1 USB Interface 14-MLP (2.5x2.5); Mfr_Name: onsemi; RefDes: RefDes; Type: Type
footprint MLP14_2P5X2P5_ONS
pins: 1 CC2, 2 VBUS, 3 VDD, 4 VDD, 5 INT_N, 6 SCL, 7 SDA, 8 GND, 9 GND, 10 CC1, 11 CC1, 12 VCONN, 13 VCONN, 14 CC2, 15 EPAD

## IC VREF SHUNT ADJ 2.2% SOT23-3
designator U?, comment TL431QDBZR
V-Ref Adjustable 2.495V to 36V 100mA 3-Pin TO-236AB T/R; Manufacturer: Texas Instruments; Tolerance: 2%; Max Input Voltage: 37V; Temperature Coefficient: 92ppm/°C; Cathode Current: 1mA; Reference Type: Shunt,Adjustable; Number of Channels: 1; Min Input Voltage: 2.483V; Supplier 1: Mouser; Manufacturer Part Number: TL431QDBZR; RoHS: Yes; Category: Voltage References; Stock 1: 6978; Pricing 1: 1=0.41, 10=0.275, 50=0.275, 100=0.13, 1000=0.1, 10000=0.078 (USD); Case/Package: SOT-23-3; Number of Pins: 3; Min Operating Temperature: -40°C; Max Operating Temperature: 125°C; Package Quantity: 1; Packaging: Tape and Reel; Series: -; Output Voltage: 36V; Max Output Current: 100mA; Output Current: 100mA; Max Output Voltage: 36V; Reference Voltage: 36V; RoHS Compliant: Yes; Reach SVHC Compliant: No; Lead Free: Lead Free; ComponentLink1URL: https://datasheet.ciiva.com/2006/tl431a-2006272.pdf?src-supplier=Digikey; ComponentLink1Description: https://datasheet.ciiva.com/2006/tl431a-2006272.pdf?src-supplier=Digikey; ComponentLink2URL: https://datasheet.ciiva.com/2006/tl431a-2006273.pdf?src-supplier=Digikey; ComponentLink2Description: https://datasheet.ciiva.com/2006/tl431a-2006273.pdf?src-supplier=Digikey; ComponentLink3URL: https://datasheet.ciiva.com/2006/tl431a-2006274.pdf?src-supplier=Digikey; ComponentLink3Description: https://datasheet.ciiva.com/2006/tl431a-2006274.pdf?src-supplier=Digikey; ComponentLink4URL: https://datasheet.ciiva.com/14366/tl432b-14366058.pdf?src-supplier=Avnet; ComponentLink4Description: https://datasheet.ciiva.com/14366/tl432b-14366058.pdf?src-supplier=Avnet; ComponentLink5URL: https://datasheet.ciiva.com/46397/1887475-46397702.pdf?src-supplier=Element14; ComponentLink5Description: https://datasheet.ciiva.com/46397/1887475-46397702.pdf?src-supplier=Element14; Supplier Part Number 1: 595-TL431QDBZR
footprint SOT23-3
pins: 1 K, 2 REF, 3 A

## IND 15nH 320mA 5% 0402
designator L?, comment 15nH
FIXED IND 15NH 320MA 460MOHM SMD; Part Number: L0402-3n9; Manufacturer: Taiyo; Manufacturer Part Number: HK100515NJ-T; Value: 3.9nH; Note: High frequency chip inductor ±5%; Current Rating: 300mA; Shielding: Unshielded; Q Factor: 8; Self Resonant Frequency: 3.5GHz; LatestRevisionDate: 2012-09-19; Pin Count: 2; Publisher: Nordic Semiconductor; Published: 2009-05-08; Footprint Doc: 0402; Mount: Surface Mount; Case/Package: 0402; Number of Pins: 2; Packaging: Cut Tape; Inductance: 15nH; Length: 1mm; Width: 500um; Height: 500um; Halogen Free: Halogen Free; Lead Free: Exempt; Supplier 1: Digi-Key; Stock 1: 78551; Pricing 1: 1=0.1, 10=0.026, 25=0.0236, 50=0.021, 100=0.0178, 250=0.01576, 500=0.01444, 1000=0.01234, 2500=0.01102 (USD); Supplier Part Number 1: 587-1521-1-ND
footprint INDC1005X04L
pins: 1, 2

## K4A8G165WBBCRC
designator U?
96FBGA with Lead-Free & Halogen-Free (RoHS compliant); Manufacturer_Name: SAMSUNG; Manufacturer_Part_Number: K4A8G165WB-BIRC0; Geometry.Height: 1.2mm; Mouser Part Number: *; Mouser Price/Stock: *; Arrow Part Number: *; Arrow Price/Stock: *; Datasheet Link: *
footprint BGA96C80P9X16_750X1330X120
pins: A1 VDDQ_1, A2 VSSQ_1, A3 DQU0, A7 DQSU_C, A8 VSSQ_2, A9 VDDQ_2, B1 VPP_1, B2 VSS_1, B3 VDD_1, B7 DQSU_T, B8 DQU1, B9 VDD_2, C1 VDDQ_3, C2 DQU4, C3 DQU2, C7 DQU3, C8 DQU5, C9 VSSQ_3, D1 VDD_3, D2 VSSQ_4, D3 DQU6, D7 DQU7, D8 VSSQ_5, D9 VDDQ_4, E1 VSS_2, E2 DMU_N/_DBIU_N, E3 VSSQ_6, E7 DML_NDBIL_N, E8 VSSQ_7, E9 UZQ, F1 VSSQ_8, F2 VDDQ_5, F3 DQSL_C, F7 DQL1, F8 VDDQ_6, F9 ZQ, G1 VDDQ_7, G2 DQL0, G3 DQSL_T, G7 VDD_4, G8 VSS_4, G9 VDDQ_8, H1 VSSQ_9, H2 DQL4, H3 DQL2, H7 DQL3, H8 DQL5, H9 VSSQ_10, J1 VDD_5, J2 VDDQ_9, J3 DQL6, J7 DQL7, J8 VDDQ_10, J9 VDD_6, K1 VSS_5, K2 CKE, K3 ODT, K7 CK_T, K8 CK_C, K9 VSS_6, L1 VDD_7, L2 WE_N/_A14, L3 ACT_N, L7 CS_N, L8 RAS_N, L9 VDD_8, M1 VREFCA, M2 BG0, M3 A10/AP, M7 A12/BC_N, M8 CAS_N/_A15, M9 BG1, N1 VSS_8, N2 BA0, N3 A4, N7 A3, N8 BA1, N9 TEN, P1 RESET_N, P2 A6, P3 A0, P7 A1, P8 A5, P9 ALERT_N, R1 VDD_9, R2 A8, R3 A2, R7 A9, R8 A7, R9 VPP_2, T1 VSS_9, T2 A11, T3 PAR, T7 NC, T8 A13, T9 VDD_10

## L96-M33
designator U?  Supplier Part Number 1: 277-L96-M33
GPS Receiver 1602.5625MHz 2.7V to 2.9V 31-Pin SMD; Manufacturer: Quectel Wireless Solutions; MF: Quectel; Package: None; Availability: Unavailable; Value: *; MP: L96-M33; SnapEDA_Link: https://www.snapeda.com/parts/L96-M33/Quectel/view-part/2780781/?ref=snap; Price: None; Supplier 1: Mouser; Manufacturer Part Number: L96-M33; RoHS: Yes; Stock 1: 2467; Pricing 1: 1=14.15, 10=12.81, 50=11.8, 100=10.78, 1000=9.43, 10000=9.43 (USD); ComponentLink1URL: https://datasheet.octopart.com/L96-M33-Quectel-datasheet-163887336.pdf?src-supplier=SOS+electronic; ComponentLink1Description: https://datasheet.octopart.com/L96-M33-Quectel-datasheet-163887336.pdf?src-supplier=SOS+electronic
footprint XCVR_L96-M33
pins: 2 3D_FIX, 3 I2C_SDA, 4 GND (power), 5 GND (power), 6 I2C_SCL, 7 EXTINT0, 8 V_BCKP, 9 VCC, 10 GND (power), 11 GND (power), 12 GND (power), 13 GND (power), 14 GND (power), 15 GND (power), 16 RF_OUT, 17 RF_IN, 18 GND (power), 19 GND (power), 20 JAM_DET, 21 GND (power), 22 GND (power), 23 ~{RESET}, 24 GEO_FENCE, 25 TXD1, 26 RXD1, 27 GND (power), 28 FORCE_ON, 29 TIMEPULSE, 30 ANTON, 31 GND (power)

## LED RGB CLEAR 4SMD
designator LED?, comment APTF1616LSEEZGKQBKC
APTF1616 Series Red/Green/Blue 1.6 x 1.6 mm Full-Color Surface Mount LED; Manufacturer: Kingbright; Supplier 1: Digikey; Manufacturer Part Number: APTF1616LSEEZGKQBKC; RoHS: Yes; Category: LEDs; Stock 1: 29450; Pricing 1: 1=0.88, 10=0.571, 100=0.3742, 1000=0.29542, 2000=0.27573, 6000=0.26588, 10000=0.26194 (USD); ComponentLink1URL: http://www.mouser.com/ds/2/216/APTF1616LSEEZGKQBKC-786442.pdf?src-supplier=Mouser; ComponentLink1Description: http://www.mouser.com/ds/2/216/APTF1616LSEEZGKQBKC-786442.pdf?src-supplier=Mouser; ComponentLink2URL: http://www.alliedelec.com/m/d/3447e5e9f92dce591761be9cb3680f3b.pdf?src-supplier=Allied+Electronics; ComponentLink2Description: http://www.alliedelec.com/m/d/3447e5e9f92dce591761be9cb3680f3b.pdf?src-supplier=Allied+Electronics; ComponentLink3URL: http://www.kingbrightusa.com/images/catalog/SPEC/APTF1616LSEEZGKQBKC.pdf?src-supplier=Digikey; ComponentLink3Description: http://www.kingbrightusa.com/images/catalog/SPEC/APTF1616LSEEZGKQBKC.pdf?src-supplier=Digikey; Supplier Part Number 1: 754-1972-1-ND
footprint APTF1616LSEEZGKQBKC
pins: 1, 2, 3, 4

## LTI-IPXSM66AL
designator AT1901, comment IPEX_CON  (value not drawn)
IPEX CONNECTER ANTENNA GPS GSM; MPN: LTI-IPXSM66AL; Solder: SMT; Value: IPEX_CON
footprint IPEX
pins: 1 AT, 2 0, 3, 4

## LTST-C193TBKT-5A
designator LED?, comment Blue
Blue 470nm LED Indication - Discrete 2.8V 0603 (1608 Metric); Manufacturer_Name: Lite-On; Manufacturer_Part_Number: LTST-C193TBKT-5A; Datasheet Link: https://componentsearchengine.com/Datasheets/1/LTST-C193TBKT-5A.pdf; Height: 0.45mm; Mouser Part Number: 859-LTSTC193TBKT5A; Mouser Price/Stock: https://www.mouser.co.uk/ProductDetail/Lite-On/LTST-C193TBKT-5A?qs=xIkB7y1OTorvzzuuxuVkOA%3D%3D; Arrow Part Number: LTST-C193TBKT-5A; Arrow Price/Stock: https://www.arrow.com/en/products/ltst-c193tbkt-5a/lite-on-technology?region=europe
footprint LEDC1608X45 B
pins: 1 K, 2 A

## M2_KEY_M_Socket
designator U?
footprint PCIE64_SMT_KEY_E
pins: 1 GND_1, 2 3.3V_2, 3 GND_3, 4 3.3V_4, 5 PERn3, 6 N/C_6, 7 PERp3, 8 N/C_8, 9 GND_9, 10 LED1# (O), 11 PETn3, 12 3.3V_12, 13 PETp3, 14 3.3V_14, 15 GND_15, 16 3.3V_16, 17 PERn2, 18 3.3V_18, 19 PERp2, 20 N/C_20, 21 GND_21, 22 N/C_22, 23 PETp2, 24 N/C_24, 25 PETp2, 26 N/C_26, 27 GND_27, 28 N/C_28, 29 PERn1, 30 N/C_30, 31 PERp1, 32 N/C_32, 33 GND_33, 34 N/C_34, 35 PETn1, 36 N/C_36, 37 PETp1, 38 N/C_36, 39 GND_39, 40 N/C_40, 41 PERn0/SATA-B+, 42 N/C_42, 43 PERp0/SATA-B-, 44 N/C_44, 45 GND_45, 46 N/C_46, 47 PETn0/SATA-A-, 48 N/C_48, 49 PETp0/SATA-A+, 50 PERST# (O)(0/3.3V) or N/C, 51 GND_51, 52 CLKREQ# (IO)(0/3.3V) or N/C, 53 REFCLKN, 54 PEWake# (IO)(0/3.3V) or N/C, 55 REFCLKP, 56 Reserved for MFG Data, 57 GND_57, 58 Reserved for MFG Data, 67 N/C_67, 68 SUSCLK(32kHz) (O)(0/3.3V), 69 CONFIG_1 = NC, 70 3.3V_70, 71 GND_71, 72 3.3V_72, 73 GND_73, 74 3.3V_74, 75 CONFIG_2 = GND, 76 GND_76, 77 GND_77, 78 Hole1, 79 Hole2

## MCP1725T-3302EMC
designator U?  Supplier Part Number 1: 78AH1814
LDO Regulator Pos 3.3V 0.5A Automotive 8-Pin DFN EP T/R; Mfr_Name: Microchip; Manufacturer Part Number: MCP1725T-3302E/MC; RefDes: RefDes; Type: Type; Supplier 1: Newark; Manufacturer: Microchip; RoHS: Yes; Category: Voltage Regulators - Linear; Stock 1: 14; Pricing 1: 1=0.738 (USD); ComponentLink1URL: https://datasheet.ciiva.com/16454/filehandler-aspxddocname-en520352-16454346.pdf?src-supplier=Future+Electronics; ComponentLink1Description: https://datasheet.ciiva.com/16454/filehandler-aspxddocname-en520352-16454346.pdf?src-supplier=Future+Electronics; ComponentLink2URL: https://datasheet.ciiva.com/2056/22026b-2056421.pdf?src-supplier=Digikey; ComponentLink2Description: https://datasheet.ciiva.com/2056/22026b-2056421.pdf?src-supplier=Digikey; ComponentLink3URL: https://datasheet.ciiva.com/8239/jp520352-8239109.pdf?src-supplier=Avnet; ComponentLink3Description: https://datasheet.ciiva.com/8239/jp520352-8239109.pdf?src-supplier=Avnet
footprint DFN8_2x3MC_MCH
pins: 1 VIN, 2 VIN, 3 SHDN, 4 GND, 5 PWRGD, 6 CDELAY, 7 SENSE, 8 VOUT, 9 EP

## MCP73831T-2ACI/MC
designator U3
MCP73831T-2ACI/MC Charger IC Lithium-Ion/Polymer
footprint MCP73831T-2ACI/MC
pins: 1 VDD, 2 VDD, 3 VBAT, 4 VBAT, 5 STAT, 6 GND, 7 NC, 8 PROG, 9 GND

## MH_3.2MMD_2.5MMH
designator MH?  (value not drawn)
Mounting Hole 3.2mm Diameter, 2.5mm Hole
footprint MH_3.2MMD_2.5MMH
pins: 1

## MH_5MMD_3.5MMH
designator MH?  (value not drawn)
Mounting Hole 5mm Diameter, 3.5mm Hole
footprint MH_5MMD_3.5MMH
pins: 1

## MOSFET 2N-CH 24V 14A SOT28
designator Q?, comment ECH8693R
Mosfet Array 2 N-Channel (Dual) Common Drain 24V 14A 1.4W Surface Mount SOT-28FL/ECH8
footprint ECH8693R (ECH8693R Mosfet Array 2 N-Channel (Dual) Common Drain 24V 14A 1.4W Surface Mount SOT-28FL/ECH8)
pins: D, D, G1 G, G2 G, S1 S, S2 S

## MOSFET 2P-CH 30V 6A PPAK 1212
designator Q?, comment SI7223DN-T1-GE3
Vishay - SI7223DN-T1-GE3 - Mosfet, Dual P-ch, -30V, Powerpak 1212; Manufacturer: Vishay Siliconix; Drain to Source Voltage (Vdss): 30V; Continuous Drain Current (ID): 6A; Rds On Max: 26.4mR; Input Capacitance: 1.425nF; Max Power Dissipation: 23W; Drain to Source Resistance: 22mR; Supplier 1: Mouser; Manufacturer Part Number: SI7223DN-T1-GE3; RoHS: Yes; Category: LDO; Stock 1: 24444; Pricing 1: 1=0.9, 10=0.736, 50=0.736, 100=0.573, 1000=0.396, 10000=0.338 (USD); Mount: Surface Mount; Min Operating Temperature: -55°C; Max Operating Temperature: 150°C; Series: TrenchFET® Gen III; Packaging: Cut Tape; RoHS Compliant: Yes; ComponentLink1URL: http://www.farnell.com/datasheets/2606257.pdf?src-supplier=Newark; ComponentLink1Description: http://www.farnell.com/datasheets/2606257.pdf?src-supplier=Newark; ComponentLink2URL: http://www.vishay.com/docs/75609/si7223dn.pdf?src-supplier=Digikey; ComponentLink2Description: http://www.vishay.com/docs/75609/si7223dn.pdf?src-supplier=Digikey; ComponentLink3URL: http://www.farnell.com/datasheets/2606257.pdf?src-supplier=Element14; ComponentLink3Description: http://www.farnell.com/datasheets/2606257.pdf?src-supplier=Element14; Supplier Part Number 1: 78-SI7223DN-T1-GE3
footprint PowerPAK1212-8_VIS
pins: 1 S, 2 G1, 3 S, 4 G2, 5 D, 6 D, 7 D, 8 D
text: G

## MOSFET N-CH 25V 5.8A SOT23
designator Q?, comment IRFML8244TRPBF
Trans MOSFET N-CH 25V 5.8A 3-Pin SOT-23 T/R - Product that comes on tape, but is not reeled; Manufacturer: Infineon; Gate to Source Voltage (Vgs): 20V; Nominal Vgs: 1.7V; Recovery Time: 17ns; Turn-Off Delay Time: 9ns; Turn-On Delay Time: 2.7ns; Drain to Source Resistance: 41mR; Element Configuration: 5460ElementConfiguration; Fall Time: 2.9ns; Number of Elements: 1NUMBER; On-State Resistance: 24mR; Power Dissipation: 1.25W; Rise Time: 2.1ns; Supplier 1: Mouser; Manufacturer Part Number: IRFML8244TRPBF; RoHS: Yes; Category: MOSFETs; Stock 1: 93120; Pricing 1: 1=0.38, 10=0.283, 50=0.283, 100=0.166, 1000=0.113, 10000=0.089 (USD); Drain to Source Breakdown Voltage: 25V; Package Quantity: 3000NUMBER; Resistance: 41MR; Length: 3.04mm; Width: 1.4mm; Height: 1.02mm; Radiation Hardening: 5898YesNo; Supplier Part Number 1: 942-IRFML8244TRPBF
footprint SOT23-3
pins: 1 G, 2 S, 3 D

## MOSFET N-CH 30V 3.5A SOT23-3L
designator Q?, comment AO3434
Trans MOSFET N-CH 30V 4A 3-Pin SOT-23; Manufacturer: Alpha & Omega Semiconductor; Manufacturer Part Number: AO3434A; Supplier 1: Digikey; RoHS: Yes; Category: Transistors; Stock 1: 37703; Pricing 1: 1=0.38, 10=0.267, 100=0.1347, 500=0.1194, 1000=0.09292 (USD); ComponentLink1URL: https://datasheet.ciiva.com/6370/ao3434a-6370626.pdf?src-supplier=Digikey; ComponentLink1Description: https://datasheet.ciiva.com/6370/ao3434a-6370626.pdf?src-supplier=Digikey; Supplier Part Number 1: 785-1460-1-ND
footprint SOT23-3
pins: 1 G, 2 S, 3 D

## MOSFET N-CH 30V 3.6A SOT23-3
designator Q?, comment SI2300DS-T1-GE3
Single N-Channel 30 V 68 mO 3 nC Surface Mount Power Mosfet - SOT-23; Manufacturer: Vishay Siliconix; Supplier 1: Mouser; Manufacturer Part Number: SI2300DS-T1-GE3; RoHS: Yes; Category: MOSFETs; Stock 1: 123312; Pricing 1: 1=0.4, 10=0.336, 50=0.336, 100=0.237, 1000=0.147, 10000=0.118 (USD); Height: 1.12mm; Lead Free: 5697LeadFree; ComponentLink1URL: https://datasheet.ciiva.com/22652/1719650-22652307.pdf?src-supplier=Element14; ComponentLink1Description: https://datasheet.ciiva.com/22652/1719650-22652307.pdf?src-supplier=Element14; ComponentLink2URL: https://datasheet.ciiva.com/23727/si2300ds-23727570.pdf?src-supplier=Newark; ComponentLink2Description: https://datasheet.ciiva.com/23727/si2300ds-23727570.pdf?src-supplier=Newark; ComponentLink3URL: https://datasheet.ciiva.com/4442/si2300ds-244411-4442281.pdf?src-supplier=Mouser; ComponentLink3Description: https://datasheet.ciiva.com/4442/si2300ds-244411-4442281.pdf?src-supplier=Mouser; ComponentLink4URL: https://datasheet.ciiva.com/11160/si2300ds-11160975.pdf?src-supplier=Avnet; ComponentLink4Description: https://datasheet.ciiva.com/11160/si2300ds-11160975.pdf?src-supplier=Avnet; ComponentLink5URL: https://datasheet.ciiva.com/931/si2300ds-931923.pdf?src-supplier=Digikey; ComponentLink5Description: https://datasheet.ciiva.com/931/si2300ds-931923.pdf?src-supplier=Digikey; ComponentLink6URL: https://datasheet.ciiva.com/931/si2300ds-931924.pdf?src-supplier=Digikey; ComponentLink6Description: https://datasheet.ciiva.com/931/si2300ds-931924.pdf?src-supplier=Digikey; ComponentLink7URL: https://datasheet.ciiva.com/931/si2300ds-931925.pdf?src-supplier=Digikey; ComponentLink7Description: https://datasheet.ciiva.com/931/si2300ds-931925.pdf?src-supplier=Digikey; ComponentLink8URL: https://datasheet.ciiva.com/16486/si2300ds-16486234.pdf?src-supplier=Future+Electronics; ComponentLink8Description: https://datasheet.ciiva.com/16486/si2300ds-16486234.pdf?src-supplier=Future+Electronics; Supplier Part Number 1: 781-SI2300DS-T1-GE3
footprint SOT23-3
pins: 1 G, 2 S, 3 D

## MOSFET N-CH 30V 590MA DFN1006-3
designator Q?, comment PMZ550UNEYL
Mosfet Transistor, N Channel, 590 Ma, 30 V, 0.55 Ohm, 4.5 V, 700 Mv Rohs Compliant: Yes; Manufacturer: Nexperia; Continuous Drain Current (ID): 590mA; Drain to Source Resistance: 550mR; Drain to Source Voltage (Vdss): 30V; Input Capacitance: 30.3pF; Max Power Dissipation: 310mW; Rds On Max: 670mR; Supplier 1: Avnet; Manufacturer Part Number: PMZ550UNEYL; RoHS: Yes; Category: MOSFETs; Stock 1: 141000; Pricing 1: 8224=0.04499, 8300=0.04378, 17000=0.04256, 42000=0.04134, 83000=0.04013, 420000=0.03891, 830000=0.0377 (USD); Mount: 8Mount; Min Operating Temperature: -55°C; Max Operating Temperature: 150°C; Packaging: 10Packaging; ComponentLink1URL: https://datasheet.octopart.com/PMZ550UNEYL-Nexperia-datasheet-87845028.pdf?src-supplier=Future+Electronics; ComponentLink1Description: https://datasheet.octopart.com/PMZ550UNEYL-Nexperia-datasheet-87845028.pdf?src-supplier=Future+Electronics; ComponentLink2URL: http://datasheet.octopart.com/PMZ550UNEYL-Nexperia-datasheet-87845028.pdf?src-supplier=Farnell; ComponentLink2Description: http://datasheet.octopart.com/PMZ550UNEYL-Nexperia-datasheet-87845028.pdf?src-supplier=Farnell; ComponentLink3URL: http://datasheet.octopart.com/PMZ550UNEYL-Nexperia-datasheet-87845028.pdf?src-supplier=Digikey; ComponentLink3Description: http://datasheet.octopart.com/PMZ550UNEYL-Nexperia-datasheet-87845028.pdf?src-supplier=Digikey; ComponentLink4URL: http://datasheet.octopart.com/PMZ550UNEYL-Nexperia-datasheet-87845028.pdf?src-supplier=Mouser; ComponentLink4Description: http://datasheet.octopart.com/PMZ550UNEYL-Nexperia-datasheet-87845028.pdf?src-supplier=Mouser; ComponentLink5URL: http://datasheet.octopart.com/PMZ550UNEYL-Nexperia-datasheet-87845028.pdf?src-supplier=Newark; ComponentLink5Description: http://datasheet.octopart.com/PMZ550UNEYL-Nexperia-datasheet-87845028.pdf?src-supplier=Newark; ComponentLink6URL: http://datasheet.octopart.com/PMZ550UNEYL-Nexperia-datasheet-87845028.pdf?src-supplier=Avnet; ComponentLink6Description: http://datasheet.octopart.com/PMZ550UNEYL-Nexperia-datasheet-87845028.pdf?src-supplier=Avnet; ComponentLink7URL: http://datasheet.octopart.com/PMZ550UNEYL-Nexperia-datasheet-87845028.pdf?src-supplier=TTI; ComponentLink7Description: http://datasheet.octopart.com/PMZ550UNEYL-Nexperia-datasheet-87845028.pdf?src-supplier=TTI; Supplier Part Number 1: PMZ550UNEYL
footprint PMZ550UNEYL (PMZ550UNEYL N-Channel 30V 590mA (Ta) 310mW (Ta), 1.67W (Tc) Surface Mount DFN1006-3)
pins: D, G, S

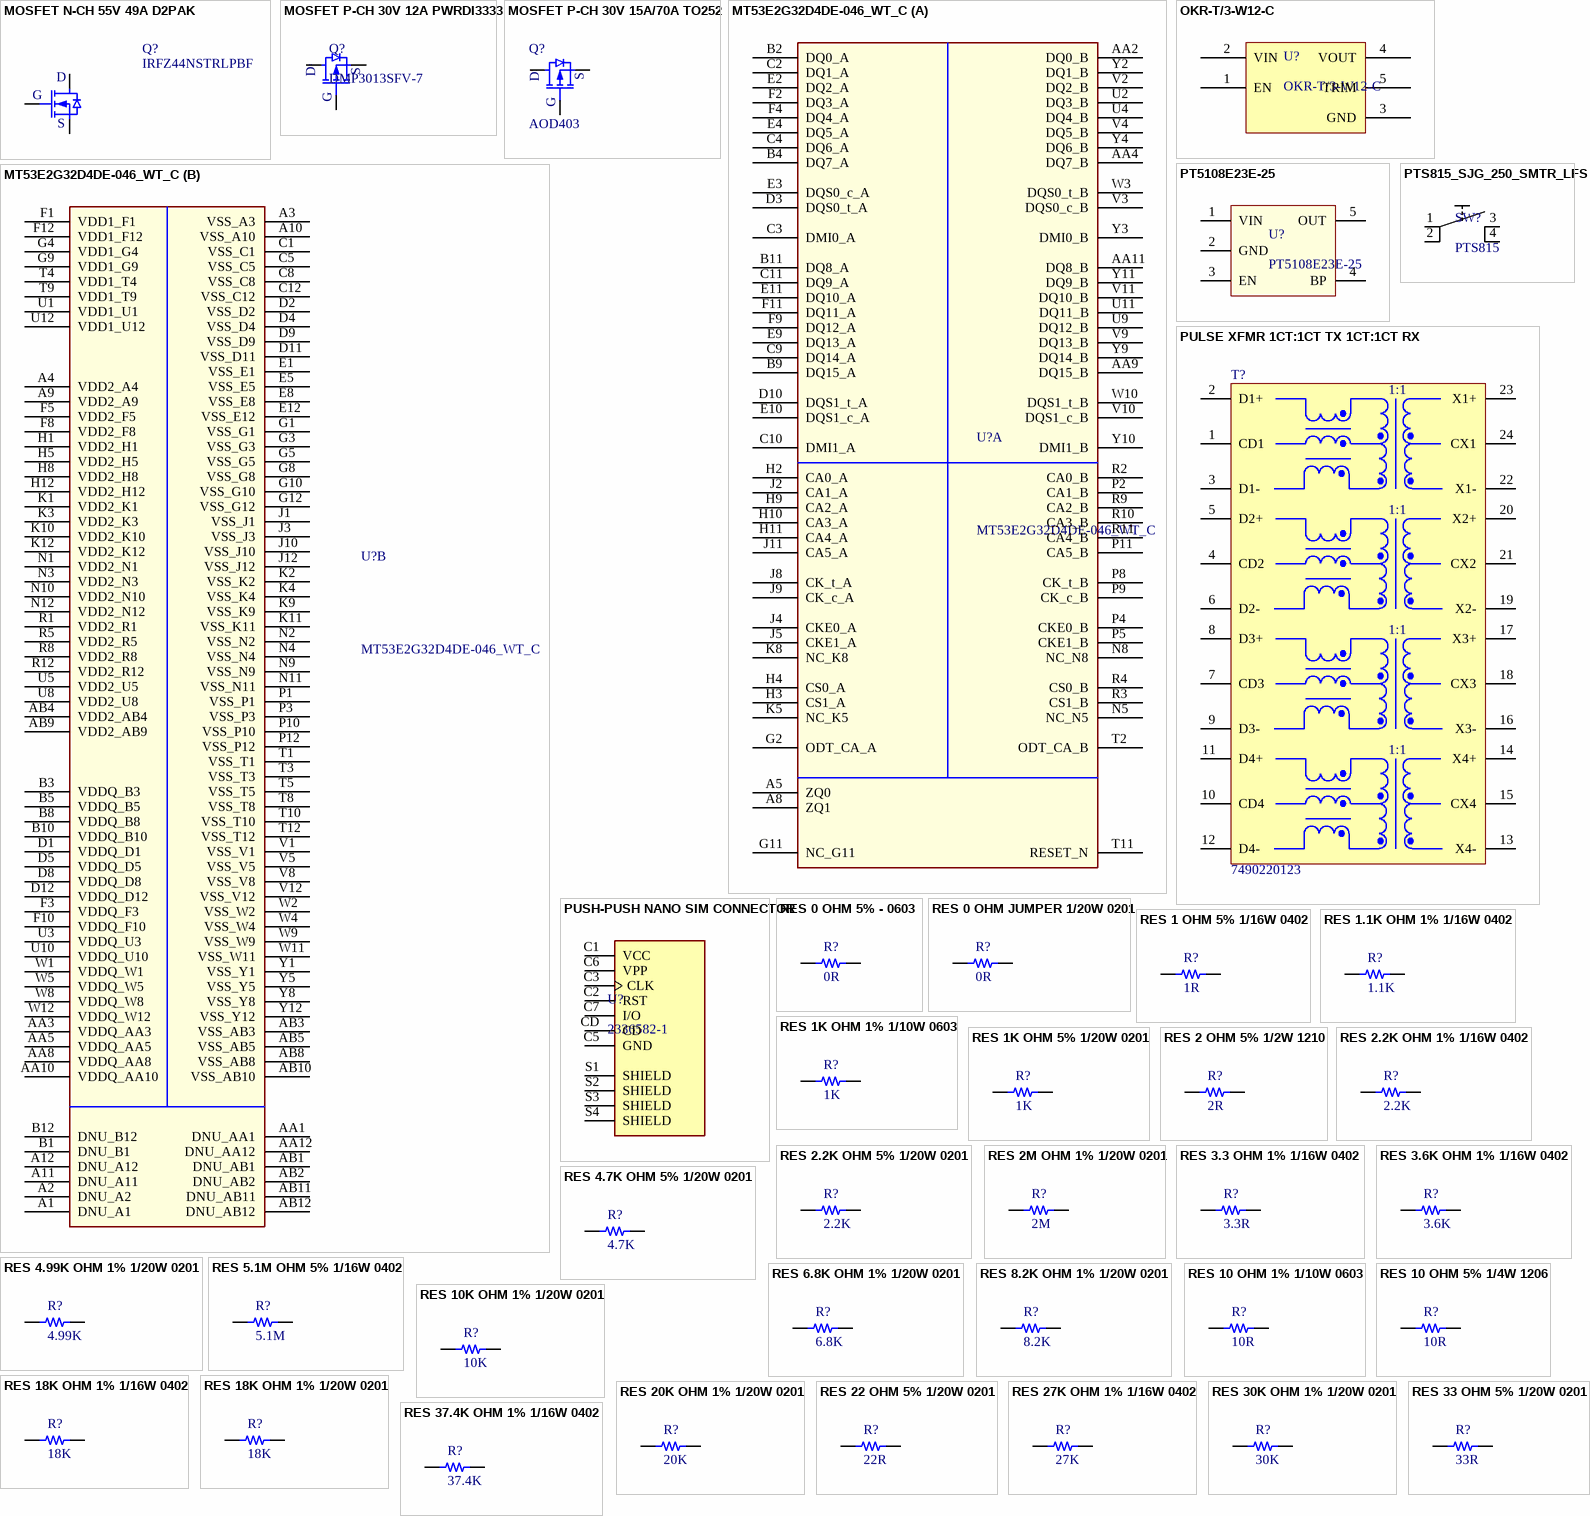
[diagram p6: symbols MOSFET N-CH 55V 49A D2PAK to RES 37.4K OHM 1% 1/16W 0402]

## MOSFET N-CH 55V 49A D2PAK
designator Q?, comment IRFZ44NSTRLPBF
MOSFET N-CH 55V 49A D2PAK; Manufacturer: Infineon Technologies; Manufacturer PN: IRFZ44NSTRLPBF; JLCPCB PN: C58228
footprint MOSFET_IRFZ44NSTRLPBF
pins: 1 G, 2 S, 3 D

## MOSFET P-CH 30V 12A PWRDI3333
designator Q?, comment DMP3013SFV-7
DMP3013 Series 30 V 12 A P-Channel Enhancement Mode Mosfet - POWERDI333; Manufacturer: Diodes; Drain to Source Voltage (Vdss): 30V; Continuous Drain Current (ID): 35A; Rds On Max: 9.5mR; Input Capacitance: 1.674nF; Max Power Dissipation: 940mW; Supplier 1: Future Electronics; Manufacturer Part Number: DMP3013SFV-7; RoHS: Yes; Stock 1: 16000; Pricing 1: 2000=0.128, 4000=0.125, 6000=0.124, 8000=0.123, 10000=0.119 (USD); Mount: Surface Mount; Number of Pins: 8; Min Operating Temperature: -55°C; Max Operating Temperature: 150°C; Packaging: Cut Tape; Series: -; RoHS Compliant: Yes; ComponentLink1URL: https://www.diodes.com/assets/Datasheets/DMP3013SFV.pdf?src-supplier=Digikey; ComponentLink1Description: https://www.diodes.com/assets/Datasheets/DMP3013SFV.pdf?src-supplier=Digikey; ComponentLink2URL: https://datasheet.octopart.com/DMP3013SFV-7-Diodes-Inc.-datasheet-140438457.pdf?src-supplier=Newark; ComponentLink2Description: https://datasheet.octopart.com/DMP3013SFV-7-Diodes-Inc.-datasheet-140438457.pdf?src-supplier=Newark; Supplier Part Number 1: 6099679
footprint POWERDI3333-8_UX_DIO
pins: 1 S, 2 S, 3 S, 4 G, 5 D, 6 D, 7 D, 8 D

## MOSFET P-CH 30V 15A/70A TO252
designator Q?, comment AOD403
Transistor P-Channel MOSFET; 30V; 4, 2A; 1, 4W; 85 mOhm; -55°C ~ 150°C; ;; Manufacturer: Alpha & Omega Semiconductor; Manufacturer Part Number: AO3401A; Rds On Max: 44mR; Input Capacitance: 1.2nF; Continuous Drain Current (ID): 4A; Max Power Dissipation: 1.4W; Number of Elements: 1; Stock 1: 1131740; Pricing 1: 1=0.44, 10=0.333, 100=0.2073, 500=0.1418, 1000=0.10908 (USD); Mount: Surface Mount; Case/Package: TO-236-3; Number of Pins: 3; Min Operating Temperature: -55°C; Max Operating Temperature: 150°C; Packaging: Cut Tape; Drain to Source Voltage (Vdss): 30V; Series: -; Power Dissipation: 1.4W; Radiation Hardening: No; RoHS Compliant: Yes; Lead Free: Lead Free; ComponentLink1URL: https://datasheet.ciiva.com/940/ao3401a-940720.pdf?src-supplier=Digi-Key; ComponentLink1Description: https://datasheet.ciiva.com/940/ao3401a-940720.pdf?src-supplier=Digi-Key; ComponentLink2URL: https://datasheet.ciiva.com/26927/getdatasheetpartid-79048-26927888.pdf?src-supplier=Verical; ComponentLink2Description: https://datasheet.ciiva.com/26927/getdatasheetpartid-79048-26927888.pdf?src-supplier=Verical; Supplier 1: Arrow Electronics; Supplier Part Number 1: AOD403
footprint TO-252 (TO252, 4-Leads, Body 6.7x10.4mm (max), Pitch 2.28mm, IPC Medium Density)
pins: 1 G, 2 S, 3 D

## MT53E2G32D4DE-046_WT_C
designator U?
DRAM DRAM LPDDR4 Z42M 16Gb; Manufacturer_Name: Micron; Manufacturer_Part_Number: MT53E2G32D4DE-046 WT:C; Geometry.Height: 1.14mm; Mouser Part Number: *; Mouser Price/Stock: *; Datasheet Link: https://4donline.ihs.com/images/VipMasterIC/IC/MICT/MICT-S-A0015462229/MICT-S-A0015462229-1.pdf?hkey=6D3A4C79FDBF58556ACFDE234799DDF0
footprint BGA200C65X80P22X12_1500X1000X114N
part A pins: A5 ZQ0, A8 ZQ1, AA2 DQ0_B, AA4 DQ7_B, AA9 DQ15_B, AA11 DQ8_B, B2 DQ0_A, B4 DQ7_A, B9 DQ15_A, B11 DQ8_A, C2 DQ1_A, C3 DMI0_A, C4 DQ6_A, C9 DQ14_A, C10 DMI1_A, C11 DQ9_A, D3 DQS0_t_A, D10 DQS1_t_A, E2 DQ2_A, E3 DQS0_c_A, E4 DQ5_A, E9 DQ13_A, E10 DQS1_c_A, E11 DQ10_A, F2 DQ3_A, F4 DQ4_A, F9 DQ12_A, F11 DQ11_A, G2 ODT_CA_A, G11 NC_G11, H2 CA0_A, H3 CS1_A, H4 CS0_A, H9 CA2_A, H10 CA3_A, H11 CA4_A, J2 CA1_A, J4 CKE0_A, J5 CKE1_A, J8 CK_t_A, J9 CK_c_A, J11 CA5_A, K5 NC_K5, K8 NC_K8, N5 NC_N5, N8 NC_N8, P2 CA1_B, P4 CKE0_B, P5 CKE1_B, P8 CK_t_B, P9 CK_c_B, P11 CA5_B, R2 CA0_B, R3 CS1_B, R4 CS0_B, R9 CA2_B, R10 CA3_B, R11 CA4_B, T2 ODT_CA_B, T11 RESET_N, U2 DQ3_B, U4 DQ4_B, U9 DQ12_B, U11 DQ11_B, V2 DQ2_B, V3 DQS0_c_B, V4 DQ5_B, V9 DQ13_B, V10 DQS1_c_B, V11 DQ10_B, W3 DQS0_t_B, W10 DQS1_t_B, Y2 DQ1_B, Y3 DMI0_B, Y4 DQ6_B, Y9 DQ14_B, Y10 DMI1_B, Y11 DQ9_B
part B pins: A1 DNU_A1, A2 DNU_A2, A3 VSS_A3 (power), A4 VDD2_A4 (power), A9 VDD2_A9 (power), A10 VSS_A10 (power), A11 DNU_A11, A12 DNU_A12, AA1 DNU_AA1, AA3 VDDQ_AA3 (power), AA5 VDDQ_AA5 (power), AA8 VDDQ_AA8 (power), AA10 VDDQ_AA10 (power), AA12 DNU_AA12, AB1 DNU_AB1, AB2 DNU_AB2, AB3 VSS_AB3 (power), AB4 VDD2_AB4 (power), AB5 VSS_AB5 (power), AB8 VSS_AB8 (power), AB9 VDD2_AB9 (power), AB10 VSS_AB10 (power), AB11 DNU_AB11, AB12 DNU_AB12, B1 DNU_B1, B3 VDDQ_B3 (power), B5 VDDQ_B5 (power), B8 VDDQ_B8 (power), B10 VDDQ_B10 (power), B12 DNU_B12, C1 VSS_C1 (power), C5 VSS_C5 (power), C8 VSS_C8 (power), C12 VSS_C12 (power), D1 VDDQ_D1 (power), D2 VSS_D2 (power), D4 VSS_D4 (power), D5 VDDQ_D5 (power), D8 VDDQ_D8 (power), D9 VSS_D9 (power), D11 VSS_D11 (power), D12 VDDQ_D12 (power), E1 VSS_E1 (power), E5 VSS_E5 (power), E8 VSS_E8 (power), E12 VSS_E12 (power), F1 VDD1_F1 (power), F3 VDDQ_F3 (power), F5 VDD2_F5 (power), F8 VDD2_F8 (power), F10 VDDQ_F10 (power), F12 VDD1_F12 (power), G1 VSS_G1 (power), G3 VSS_G3 (power), G4 VDD1_G4 (power), G5 VSS_G5 (power), G8 VSS_G8 (power), G9 VDD1_G9 (power), G10 VSS_G10 (power), G12 VSS_G12 (power), H1 VDD2_H1 (power), H5 VDD2_H5 (power), H8 VDD2_H8 (power), H12 VDD2_H12 (power), J1 VSS_J1 (power), J3 VSS_J3 (power), J10 VSS_J10 (power), J12 VSS_J12 (power), K1 VDD2_K1 (power), K2 VSS_K2 (power), K3 VDD2_K3 (power), K4 VSS_K4 (power), K9 VSS_K9 (power), K10 VDD2_K10 (power), K11 VSS_K11 (power), K12 VDD2_K12 (power), N1 VDD2_N1 (power), N2 VSS_N2 (power), N3 VDD2_N3 (power), N4 VSS_N4 (power), N9 VSS_N9 (power), N10 VDD2_N10 (power), N11 VSS_N11 (power), N12 VDD2_N12 (power), P1 VSS_P1 (power), P3 VSS_P3 (power), P10 VSS_P10 (power), P12 VSS_P12 (power), R1 VDD2_R1 (power), R5 VDD2_R5 (power), R8 VDD2_R8 (power), R12 VDD2_R12 (power), T1 VSS_T1 (power), T3 VSS_T3 (power), T4 VDD1_T4 (power), T5 VSS_T5 (power), T8 VSS_T8 (power), T9 VDD1_T9 (power), T10 VSS_T10 (power), T12 VSS_T12 (power), U1 VDD1_U1 (power), U3 VDDQ_U3 (power), U5 VDD2_U5 (power), U8 VDD2_U8 (power), U10 VDDQ_U10 (power), U12 VDD1_U12 (power), V1 VSS_V1 (power), V5 VSS_V5 (power), V8 VSS_V8 (power), V12 VSS_V12 (power), W1 VDDQ_W1 (power), W2 VSS_W2 (power), W4 VSS_W4 (power), W5 VDDQ_W5 (power), W8 VDDQ_W8 (power), W9 VSS_W9 (power), W11 VSS_W11 (power), W12 VDDQ_W12 (power), Y1 VSS_Y1 (power), Y5 VSS_Y5 (power), Y8 VSS_Y8 (power), Y12 VSS_Y12 (power)

## OKR-T/3-W12-C
designator U?
Module DC-DC 12VIN 1-OUT 0.591V to 6V 3A 15W 5-Pin SIP Tray; Manufacturer: Murata; Supplier 1: Digikey; Manufacturer Part Number: OKR-T/3-W12-C; RoHS: No; Category: Board Mount Modules; Stock 1: 2849; Pricing 1: 1=7.16, 5=7.104, 10=7.046, 25=6.9416, 50=6.7338, 100=6.2832, 250=5.62492, 500=5.425 (USD); Supplier Part Number 1: 811-2115-5-ND
footprint OKR-T3_MUR
pins: 1 EN, 2 VIN, 3 GND, 4 VOUT, 5 TRIM

## PT5108E23E-25
designator U?
High Speed LDO Regulators,High PSRR,Low noise,PT5108
footprint SOT-23-5
pins: 1 VIN, 2 GND, 3 EN, 4 BP, 5 OUT

## PTS815_SJG_250_SMTR_LFS
designator SW?, comment PTS815
Switch;Tactile;4.2 x 3.2;2.5MM;400gf;J Leads | C&K PTS815 SJG 250 SMTR LFS; SnapEDA_Link: https://www.snapeda.com/parts/PTS815%20SJG%20250%20SMTR%20LFS/C%2526K/view-part/?ref=snap; Package: None; Value: *; MF: C&K; MP: PTS815 SJG 250 SMTR LFS; Check_prices: https://www.snapeda.com/parts/PTS815%20SJG%20250%20SMTR%20LFS/C%2526K/view-part/?ref=eda
footprint PTS815SJG250SMTRLFS
pins: 1, 2, 3, 4

## PULSE XFMR 1CT:1CT TX 1CT:1CT RX
designator T?, comment 7490220123
WE-LAN LAN Transformer, SMT, 1000 Base-T, 1 Port, 200uH; Manufacturer: Wurth Elektronik; HPLE: No; Insulation Test Voltage: 1500Vrms; Number of Ports: 1; PoE: 4PPoE (up to 1500 mA); Turns Ratio: 1:1; Manufacturer PN: 7490220123; Category: Signal Transformers; Match Code: WE-LAN; ComponentLink1Description: Website Link; ComponentLink1URL: https://www.we-online.com/redexpert/article/7490220123?ad; ComponentLink2Description: Datasheet Link; ComponentLink2URL: https://www.we-online.com/redexpert/spec/7490220123?ad; Mount: Surface Mount; Operating Temperature Max: 105°C; Operating Temperature Min: -40°C; Packaging: Tape and Reel; Length: 18.29mm; Width: 14.7mm; Height: 8.8mm; Data Rate: 1000 Base-T; Inductance: 200uH; JLCPCB PN: C5264404
footprint 7490220123
pins: 1 CD1, 2 D1+, 3 D1-, 4 CD2, 5 D2+, 6 D2-, 7 CD3, 8 D3+, 9 D3-, 10 CD4, 11 D4+, 12 D4-, 13 X4-, 14 X4+, 15 CX4, 16 X3-, 17 X3+, 18 CX3, 19 X2-, 20 X2+, 21 CX2, 22 X1-, 23 X1+, 24 CX1

## PUSH-PUSH NANO SIM CONNECTOR
designator U?, comment 2336582-1
Push-push Nano Sim Connector; Manufacturer: TE Connectivity; Supplier 1: Arrow Electronics; Manufacturer Part Number: 2336582-1; RoHS: Yes; Category: Connectors; Stock 1: 4500; Pricing 1: 1500=1.1619, 3000=1.1052, 6000=1.082 (USD); Supplier Part Number 1: 2336582-1
footprint TE_2336582-1
pins: C1 VCC (power), C2 RST, C3 CLK, C5 GND (power), C6 VPP (power), C7 I/O, CD, S1 SHIELD, S2 SHIELD, S3 SHIELD, S4 SHIELD

## RES 0 OHM 5% - 0603
designator R?, comment 0R
Resistor Thick Film 0603 Jumper 0 Ohm 5% 1/10W Molded Paper T/R - Tape and Reel; Manufacturer: Yageo; Manufacturer Part Number: RC0603JR-130RP; Power Rating: 100mW; Voltage Rating: 75V; Supplier 1: Future Electronics; RoHS: Yes; Category: Chip SMD Resistors; Stock 1: 20000; Pricing 1: 20000=0.0044, 60000=0.0042, 200000=0.004, 400000=0.0039, 800000=0.0037 (USD); Case/Package: 345Case; Min Operating Temperature: -55°C; Max Operating Temperature: 155°C; Resistance: 0R; Height: 550um; RoHS Compliant: Yes; Supplier Part Number 1: 8183176
footprint R0603B/1608MM (Chip Resistor, 2-Leads, Body 1.6x0.8mm, IPC High Density)
pins: 1, 2